# Altium footprint library WRB_P-3WR2.PcbLib: 1 footprints
Each footprint in its own frame and in the unit in brackets; x right, y up, seen from the top. Pads: shape width x height; smd on the part's side, far side on the other; paste and mask are expansions set on the pad; w line width, h text height; cw(c..) or ccw(c..) is an arc to the next point about the centre after c.
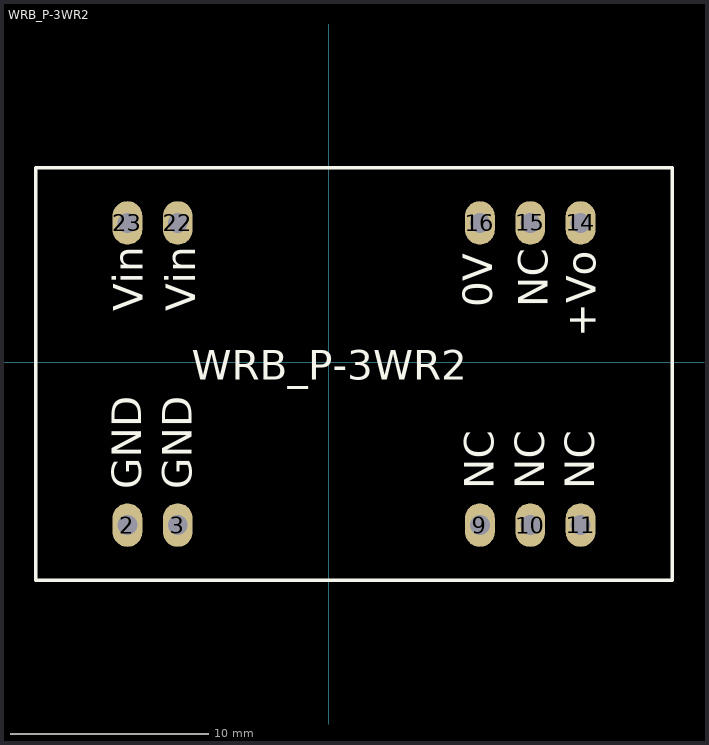
[diagram p0: the footprint, top view; thin cyan lines are the x and y axes]

## WRB_P-3WR2 [mm]
pads (10):
  oval 1.5x2.2 hole 1: 2(-10.16,-8.202) 3(-7.62,-8.202) 9(7.62,-8.202) 10(10.16,-8.202) 11(12.7,-8.202) 14(12.7,7.038) 15(10.16,7.038) 16(7.62,7.038) 22(-7.62,7.038) 23(-10.16,7.038)
Top Overlay:
  lines w0.17: -14.78,-10.982 -14.78,9.818 17.32,9.818 17.32,-10.982 -14.78,-10.982
  text "NC" at 11.049,2.777 h1.5
  text "NC" at 8.316,-6.402 h1.5
  text "NC" at 10.856,-6.402 h1.5
  text "NC" at 13.396,-6.402 h1.5
  text "+Vo" at 13.462,1.27 h1.5
  text "0V" at 8.255,2.784 h1.5
  text "Vin" at -6.731,2.591 h1.5
  text "Vin" at -9.398,2.591 h1.5
  text "GND" at -6.924,-6.402 h1.5
  text "GND" at -9.464,-6.402 h1.5
  text "WRB_P-3WR2" at -6.909,-0.882 h1.5